# EAGLE library part ACPL-244 (library systas0)
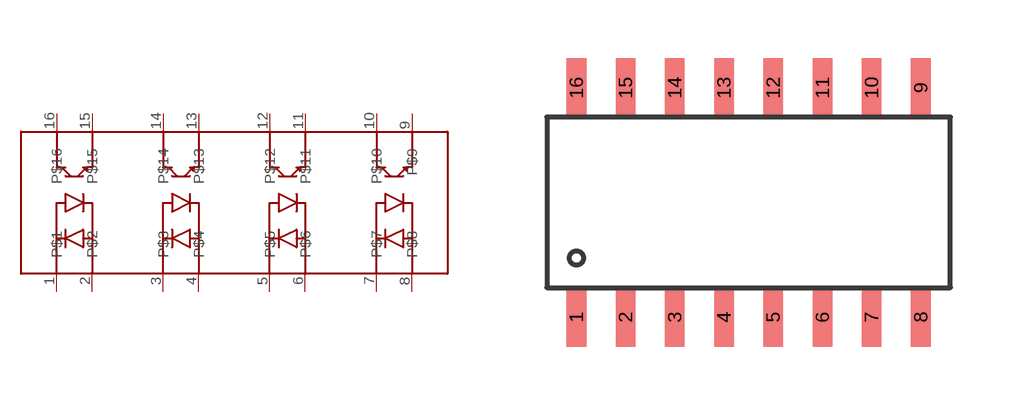
[diagram p14: symbol with the pads of ACPL-244; footprint ACPL-244]

Designator prefix -

## ACPL-244  [ACPL-244]
1  P$1
2  P$2
3  P$3
4  P$4
5  P$5
6  P$6
7  P$7
8  P$8
9  P$9
10  P$10
11  P$11
12  P$12
13  P$13
14  P$14
15  P$15
16  P$16

## Footprint ACPL-244 (pad centres in mm)
smd 0.508 x 1.524: 1 0.762,-0.762; 2 2.032,-0.762; 3 3.302,-0.762; 4 4.572,-0.762; 5 5.842,-0.762; 6 7.112,-0.762; 7 8.382,-0.762; 8 9.652,-0.762; 9 9.652,5.156; 10 8.382,5.156; 11 7.112,5.156; 12 5.842,5.156; 13 4.572,5.156; 14 3.302,5.156; 15 2.032,5.156; 16 0.762,5.156